# Altium footprint library Passives.PcbLib: 23 footprints (part 2 of 2)
Each footprint in its own frame and in the unit in brackets; x right, y up, seen from the top. Pads: shape width x height; smd on the part's side, far side on the other; paste and mask are expansions set on the pad; w line width, h text height; cw(c..) or ccw(c..) is an arc to the next point about the centre after c.
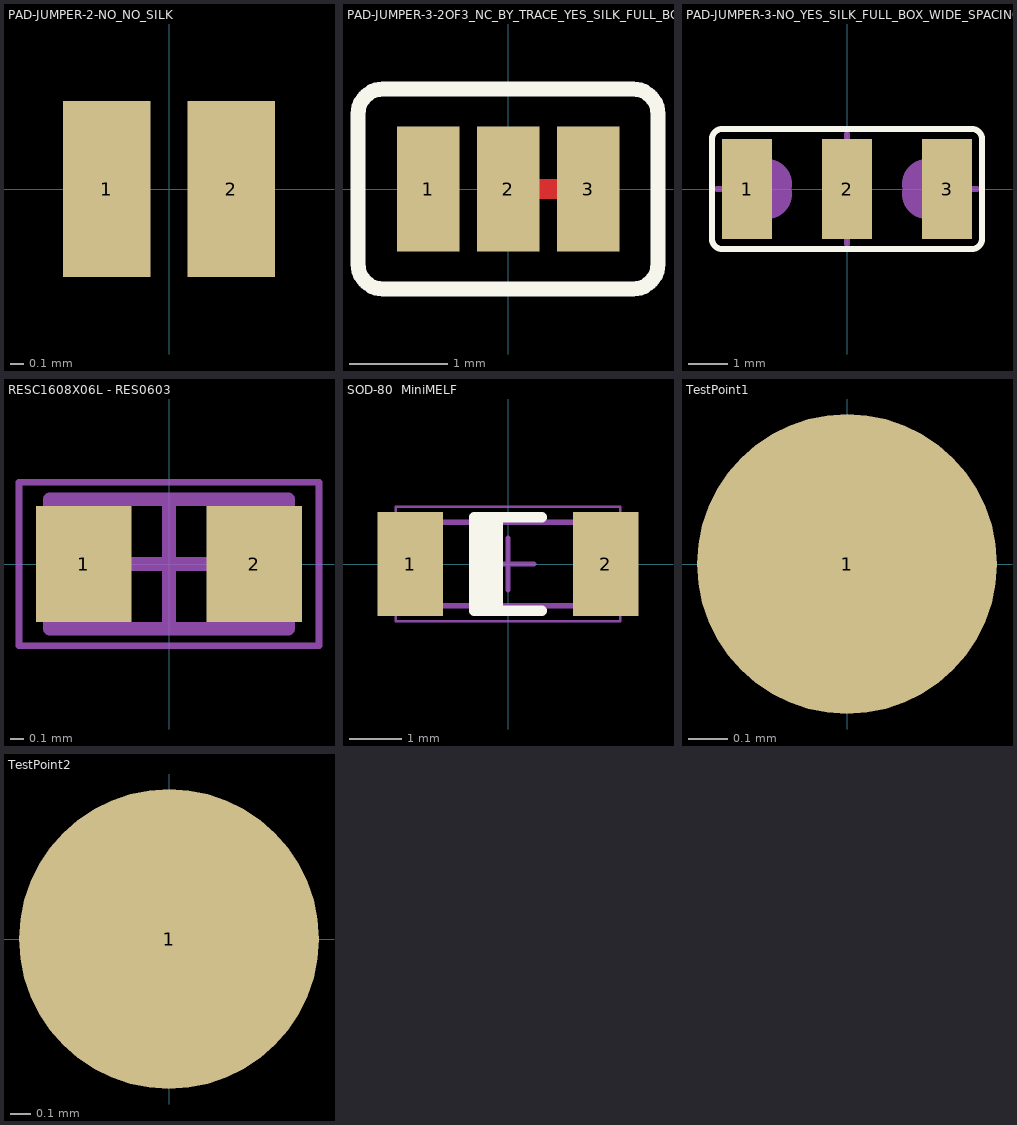
[diagram p1: the footprints below, top view; thin cyan lines are the x and y axes]

## PAD-JUMPER-2-NO_NO_SILK [mm]
pads (2):
  rect 0.635x1.27 smd: 1(-0.45,0) 2(0.45,0)

## PAD-JUMPER-3-2OF3_NC_BY_TRACE_YES_SILK_FULL_BOX [mil]
pads (3):
  rect 25x50 smd: 1(-32,0) 2(0,0) 3(32,0)
Top Layer:
  lines w8: 0,0 25,0
Top Overlay:
  lines w6: -60,-30 ccw(c-50,-30) -50,-40 50,-40 ccw(c50,-30) 60,-30 60,30 ccw(c50,30) 50,40 -50,40 ccw(c-50,30) -60,30 -60,-30
Top Solder:
  lines w15: 0.75,0 30.75,0

## PAD-JUMPER-3-NO_YES_SILK_FULL_BOX_WIDE_SPACING [mm]
pads (3):
  rect 1.27x2.54 smd: 1(-2.54,0) 2(0,0) 3(2.54,0)
Top Overlay:
  lines w0.152: -3.429,-1.27 ccw(c-3.175,-1.27) -3.175,-1.524 3.175,-1.524 ccw(c3.175,-1.27) 3.429,-1.27 3.429,1.27 ccw(c3.175,1.27) 3.175,1.524 -3.175,1.524 ccw(c-3.175,1.27) -3.429,1.27 -3.429,-1.27
Mechanical 16:
  rectangle: -0.508,-0.762 0.508,0.762
  lines w0.152: -3.302,0 -2.794,0 ; 0,-1.397 0,-0.762 ; 0,0.762 0,1.397 ; 2.794,0 3.302,0
  lines w1.27: -2.032,-0.127 cw(c-2.032,0) -2.032,0.127 ; 2.032,-0.127 ccw(c2.032,0) 2.032,0.127

## RESC1608X06L - RES0603 [mm] "Chip Resistor, 2-Leads, Body 1.60x0.80mm, IPC High Density"
height 0.55
pads (2):
  rect 0.7x0.85 smd: 1(-0.625,0) 2(0.625,0)
Mechanical 13:
  lines w0.1: -0.875,-0.475 0.875,-0.475 0.875,0.475 -0.875,0.475 -0.875,-0.475
Mechanical 15:
  lines w0.05: -1.1,-0.6 1.1,-0.6 1.1,0.6 -1.1,0.6 -1.1,-0.6
  lines w0.1: -0.475,0 0.475,0 ; 0,-0.475 0,0.475
3D body: height 0.55, standoff 0, extent 0.575,-0.475 0.875,0.475
3D body: height 0.55, standoff 0, extent -0.875,-0.475 -0.575,0.475
3D body: height 0.55, standoff 0, extent -0.575,-0.475 0.575,0.475

## SOD-80  MiniMELF [mm] "MELF Diode, 2-Leads, Body 3.50x1.50mm, IPC High Density"
height 1.6
pads (2):
  rect 1.25x2 smd: 1(-1.875,0) 2(1.875,0)
Top Overlay:
  rectangle: -0.65,-0.9 -0.1,0.9
  lines w0.2: 0.65,-0.9 -0.65,-0.9 -0.65,0.9 0.65,0.9
Mechanical 13:
  lines w0.1: -1.85,-0.8 -1.85,0.8 1.85,0.8 1.85,-0.8 -1.85,-0.8
Mechanical 15:
  lines w0.05: -2.15,-1.1 -2.15,1.1 2.15,1.1 2.15,-1.1 -2.15,-1.1
  lines w0.1: -0.5,0 0.5,0 ; 0,-0.5 0,0.5
3D body "SOD-80  MiniMELF.step": height 1.5, standoff 0.01, extent -1.75,-0.749 1.75,0.749

## TestPoint1 [mil] "Small 0.762mm Round Test Point"
pads (1):
  round 30 smd paste-39.37: 1(0,0)

## TestPoint2 [mm] "Larger 1.5mm Round Test Point"
pads (1):
  round 1.5 smd paste-1: 1(0,0)